# EAGLE library part ADP3335 (library analog-devices)
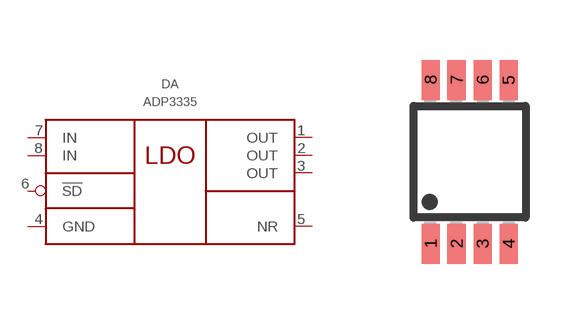
[diagram p11: symbol with the pads of MSOP8; footprint MSOP8]

Designator prefix DA

## ADP3335ARMZ-1.8  [MSOP8]
1  OUT  pwr
2  OUT  pwr
3  OUT  pwr
4  GND  pwr
5  NR  pas
6  !SD  in
7  IN  pwr
8  IN  pwr

## ADP3335ARMZ-2.5  [MSOP8]
Pads as for MSOP8

## ADP3335ARMZ-3.3  [MSOP8]
Pads as for MSOP8

## ADP3335ARMZ-2.85  [MSOP8]
Pads as for MSOP8

## ADP3335ARMZ-5  [MSOP8]
Pads as for MSOP8

## Footprint MSOP8 (pad centres in mm)
Micro Small Outline Package Grid .65mm
smd 0.45 x 1: 1 -0.975,-2.05; 2 -0.325,-2.05; 3 0.325,-2.05; 4 0.975,-2.05; 5 0.975,2.05; 6 0.325,2.05; 7 -0.325,2.05; 8 -0.975,2.05